# Altium schematic symbol library 2N7002.Schlib: 1 symbol
Pins are listed as number, name and electrical type; pins without a type are passive.

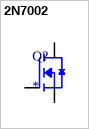
[diagram p0: symbol 2N7002]

## 2N7002
designator Q?
MOSFET, SOT-23, N, 60V, 0.28A, 5â„¦, 150Â°C
pins: 1 G, 2 S, 3 D